# Altium schematic symbol library transformerLib.SchLib: 5 symbols
Pins are listed as number, name and electrical type; pins without a type are passive.

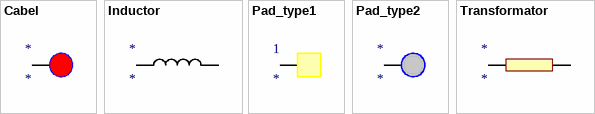
[diagram p0: symbols Cabel to Transformator]

## Cabel
designator *
footprint pad_type3
pins: 1

## Inductor
designator *
footprint Inductor
footprint Inductor
pins: 1, 2

## Pad_type1
designator 1
footprint pad_type1
pins: 1

## Pad_type2
designator *
footprint pad_type2
pins: 1

## Transformator
designator *
footprint tr_all
pins: 1, 2